# Altium footprint library CDRon_lib.PcbLib: 12 footprints
Each footprint in its own frame and in the unit in brackets; x right, y up, seen from the top. Pads: shape width x height; smd on the part's side, far side on the other; paste and mask are expansions set on the pad; w line width, h text height; cw(c..) or ccw(c..) is an arc to the next point about the centre after c.
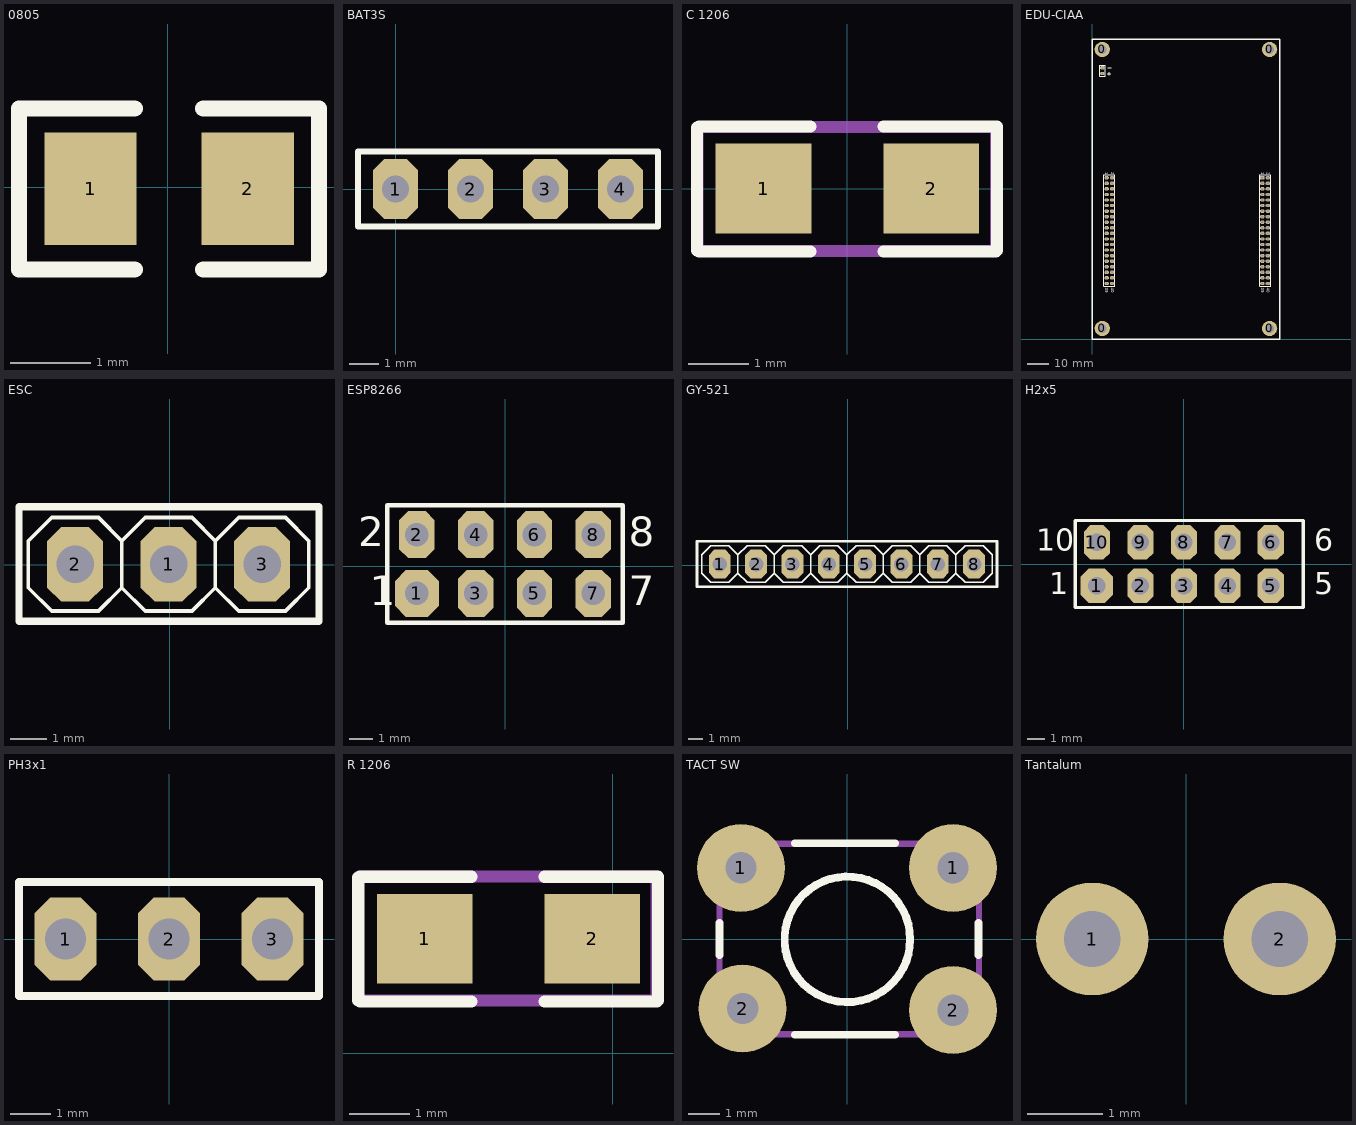
[diagram p0: the footprints below, top view; thin cyan lines are the x and y axes]

## 0805 [mm]
pads (2):
  rect 1.15x1.4 smd: 1(-0.964,-0.019) 2(0.991,-0.019)
Top Overlay:
  lines w0.203: -1.854,-1.022 -1.854,0.982 ; -1.812,-1.022 -0.413,-1.022 ; -1.812,0.982 -0.413,0.982 ; 0.439,-1.022 1.839,-1.022 ; 0.439,0.982 1.839,0.982 ; 1.88,-1.022 1.88,0.982
3D body: height 0.78, standoff 0, extent -1.025,-0.625 0.975,0.625

## BAT3S [mil]
pads (4):
  oct 60x80 hole 35.43: 1(0,0) 2(100,0) 3(200,0) 4(300,0)
Top Overlay:
  lines w7.87: -50,-50 -50,50 350,50 350,-50 -50,-50
3D body: height 275.59, standoff -133.86, extent -94.1,-135 394.1,91.38

## C 1206 [mm]
height 1.016
pads (2):
  rect 1.6x1.5 smd: 1(-1.4,0) 2(1.4,0)
Top Overlay:
  lines w0.203: -2.511,-1.032 -2.511,1.023 ; -2.48,-1.048 -0.621,-1.048 ; -2.48,1.035 -0.621,1.035 ; 0.601,-1.048 2.48,-1.048 ; 0.601,1.035 2.497,1.035 ; 2.497,-1.032 2.497,1.023
Mechanical 29:
  lines w0.2: -2.506,-1.021 -2.506,1.009 -2.486,1.029 2.484,1.029 2.484,-1.041 -2.486,-1.041 -2.506,-1.021
  text ".Designator" at -1.996,-0.471 h1
3D body: height 0.77, standoff -0.01, extent -1.536,-0.801 1.664,0.799

## EDU-CIAA [mil]
pads (86):
  round 275 hole 157.48: 0(185.1,190) 0(185.1,5205.75) 0(3192.97,190) 0(3192.97,5205.75)
  rect 80x60 hole 40: 1(3061.07,2899.1)
  oct 80x60 hole 40: 2(3161.07,2899.1) 3(3061.07,2799.1) 4(3161.07,2799.1) 5(3061.07,2699.1) 6(3161.07,2699.1) 7(3061.07,2599.1) 8(3161.07,2599.1) 9(3061.07,2499.1) 10(3161.07,2499.1) 11(3061.07,2399.1) 12(3161.07,2399.1) 13(3061.07,2299.1) 14(3161.07,2299.1) 15(3061.07,2199.1) 16(3161.07,2199.1) 17(3061.07,2099.1) 18(3161.07,2099.1) 19(3061.07,1999.1) 20(3161.07,1999.1) 21(3061.07,1899.1) 22(3161.07,1899.1) 23(3061.07,1799.1) 24(3161.07,1799.1) 25(3061.07,1699.1) 26(3161.07,1699.1) 27(3061.07,1599.1) 28(3161.07,1599.1) 29(3061.07,1499.1) 30(3161.07,1499.1) 31(3061.07,1399.1) 32(3161.07,1399.1) 33(3061.07,1299.1) 34(3161.07,1299.1) 35(3061.07,1199.1) 36(3161.07,1199.1) 37(3061.07,1099.1) 38(3161.07,1099.1) 39(3061.07,999.1) 40(3161.07,999.1) 41(261.1,2899.1) 42(361.1,2899.1) 43(261.1,2799.1) 44(361.1,2799.1) 45(261.1,2699.1) 46(361.1,2699.1) 47(261.1,2599.1) 48(361.1,2599.1) 49(261.1,2499.1) 50(361.1,2499.1) 51(261.1,2399.1) 52(361.1,2399.1) 53(261.1,2299.1) 54(361.1,2299.1) 55(261.1,2199.1) 56(361.1,2199.1) 57(261.1,2099.1) 58(361.1,2099.1) 59(261.1,1999.1) 60(361.1,1999.1) 61(261.1,1899.1) 62(361.1,1899.1) 63(261.1,1799.1) 64(361.1,1799.1) 65(261.1,1699.1) 66(361.1,1699.1) 67(261.1,1599.1) 68(361.1,1599.1) 69(261.1,1499.1) 70(361.1,1499.1) 71(261.1,1399.1) 72(361.1,1399.1) 73(261.1,1299.1) 74(361.1,1299.1) 75(261.1,1199.1) 76(361.1,1199.1) 77(261.1,1099.1) 78(361.1,1099.1) 79(261.1,999.1) 80(361.1,999.1) 81(185.97,4773.86) 82(185.97,4873.86)
Top Overlay:
  lines w7.87: 135.97,4723.86 135.97,4923.86 235.97,4923.86 235.97,4723.86 135.97,4723.86 ; 211.1,949.1 411.1,949.1 411.1,2949.1 211.1,2949.1 211.1,949.1 ; 3011.07,949.1 3211.07,949.1 3211.07,2949.1 3011.07,2949.1 3011.07,949.1
  lines w10: 273.5,4769.36 339.4,4769.36 ; 279.9,4877.36 345.8,4877.36 ; 305.5,4740.96 305.5,4798.66
  lines w25: 0,0 0,5393.7 3379,5393.7 3379,0 0,0
  text "2" at 3141.07,2999.1 h50
  text "39" at 3041.07,919.1 h50
  text "1" at 3041.07,2999.1 h50
  text "40" at 3141.07,919.1 h50
  text "2" at 341.1,2999.1 h50
  text "39" at 241.1,919.1 h50
  text "1" at 241.1,2999.1 h50
  text "40" at 341.1,919.1 h50
3D body: height 334.65, standoff -125.98, extent 130,4720.08 228.43,4929.92
3D body: height -48.21, standoff -480.49, extent 130.01,4725 230.01,4925
3D body: height -387.01, standoff -450, extent 0,0 3378.94,5394.68
3D body: height 116.3, standoff -320.71, extent 210,950 410,2950
3D body: height 96.3, standoff -340.71, extent 3010,950 3210,2950
3D body: height -53.54, standoff -518.11, extent 119.96,799.72 490.04,3095
3D body: height -53.54, standoff -518.11, extent 2919.96,800 3290.04,3095.27

## ESC [mil]
pads (3):
  oct 60x80 hole 40: 1(-1.1,0.6) 2(-101.1,0.6) 3(98.9,0.6)
Top Overlay:
  lines w3.94: -51.1,-24.4 -51.1,25.6 ; -51.1,-24.4 -26.1,-49.4 ; -51.1,-24.4 -51.1,25.6 ; -51.1,-24.4 -76.1,-49.4 -126.1,-49.4 -151.1,-24.4 -151.1,25.6 -126.1,50.6 -76.1,50.6 -51.1,25.6 ; -51.1,-24.4 -26.1,-49.4 ; -51.1,25.6 -26.1,50.6 ; -51.1,25.6 -26.1,50.6 ; -26.1,-49.4 23.9,-49.4 ; -26.1,-49.4 23.9,-49.4 ; -26.1,50.6 23.9,50.6 ; -26.1,50.6 23.9,50.6 ; 23.9,-49.4 48.9,-24.4 ; 23.9,-49.4 48.9,-24.4 ; 23.9,50.6 48.9,25.6 ; 23.9,50.6 48.9,25.6 ; 48.9,-24.4 48.9,25.6 ; 48.9,-24.4 73.9,-49.4 123.9,-49.4 148.9,-24.4 148.9,25.6 123.9,50.6 73.9,50.6 48.9,25.6 ; 48.9,-24.4 48.9,25.6
  lines w7.87: -161.1,-60.2 159.8,-60.2 159.8,62.1 -161.1,62.1 -161.1,-60.2
Mechanical 1:
  rectangle: -11.1,-9.4 8.9,10.6
  rectangle: 88.9,-9.4 108.9,10.6
  rectangle: -111.1,-9.4 -91.1,10.6
  rectangle: -11.1,-9.4 8.9,10.6
3D body: height 99.02, standoff -118.11, extent -150,-384.41 150,14.41

## ESP8266 [mil]
pads (8):
  oct 75x80 hole 40: 1(-150.2,-46.6)
  oct 60x80 hole 40: 2(-150.2,53.4) 3(-50.2,-46.6) 4(-50.2,53.4) 5(49.8,-46.6) 6(49.8,53.4) 7(149.8,-46.6) 8(149.8,53.4)
Top Overlay:
  lines w7.87: -200.2,-96.6 199.8,-96.6 199.8,103.4 -200.2,103.4 -200.2,-96.6
  text "2" at -250.2,33.4 h50
  text "1" at -230.2,-66.6 h50
  text "7" at 209.8,-66.6 h50
  text "8" at 209.8,33.4 h50
3D body: height 177.17, standoff -124.02, extent -200,-95 200,105
3D body: height 411.4, standoff -48.35, extent -285.87,-103.19 285,873.19

## GY-521 [mil]
pads (8):
  oct 60x80 hole 40: 1(-351.9,2.8) 2(-251.9,2.8) 3(-151.9,2.8) 4(-51.9,2.8) 5(48.1,2.8) 6(148.1,2.8) 7(248.1,2.8) 8(348.1,2.8)
Top Overlay:
  lines w3.94: -301.9,-22.2 -276.9,-47.2 -226.9,-47.2 -201.9,-22.2 ; -301.9,-22.2 -326.9,-47.2 -376.9,-47.2 -401.9,-22.2 -401.9,27.8 -376.9,52.8 -326.9,52.8 -301.9,27.8 ; -301.9,-22.2 -301.9,27.8 ; -301.9,27.8 -276.9,52.8 -226.9,52.8 -201.9,27.8 ; -201.9,-22.2 -201.9,27.8 ; -201.9,-22.2 -176.9,-47.2 -126.9,-47.2 -101.9,-22.2 ; -201.9,-22.2 -201.9,27.8 ; -201.9,27.8 -176.9,52.8 -126.9,52.8 -101.9,27.8 ; -101.9,-22.2 -76.9,-47.2 -26.9,-47.2 -1.9,-22.2 ; -101.9,-22.2 -101.9,27.8 ; -101.9,27.8 -76.9,52.8 -26.9,52.8 -1.9,27.8 ; -1.9,-22.2 -1.9,27.8 ; -1.9,-22.2 23.1,-47.2 73.1,-47.2 98.1,-22.2 ; -1.9,-22.2 -1.9,27.8 ; -1.9,27.8 23.1,52.8 73.1,52.8 98.1,27.8 ; 98.1,-22.2 123.1,-47.2 173.1,-47.2 198.1,-22.2 ; 98.1,-22.2 98.1,27.8 ; 98.1,27.8 123.1,52.8 173.1,52.8 198.1,27.8 ; 198.1,-22.2 198.1,27.8 ; 198.1,-22.2 223.1,-47.2 273.1,-47.2 298.1,-22.2 ; 198.1,-22.2 198.1,27.8 ; 198.1,27.8 223.1,52.8 273.1,52.8 298.1,27.8 ; 298.1,-22.2 323.1,-47.2 373.1,-47.2 398.1,-22.2 398.1,27.8 373.1,52.8 323.1,52.8 298.1,27.8 ; 298.1,-22.2 298.1,27.8
  lines w7.87: -414.7,-59.7 411,-59.7 411,65.5 -414.7,65.5 -414.7,-59.7
Mechanical 1:
  rectangle: -261.9,-7.2 -241.9,12.8
  rectangle: -361.9,-7.2 -341.9,12.8
  rectangle: -61.9,-7.2 -41.9,12.8
  rectangle: -161.9,-7.2 -141.9,12.8
  rectangle: 138.1,-7.2 158.1,12.8
  rectangle: 38.1,-7.2 58.1,12.8
  rectangle: 338.1,-7.2 358.1,12.8
  rectangle: 238.1,-7.2 258.1,12.8
3D body: height 549.65, standoff 84.3, extent -400,-45 400,555.2
3D body: height 326.77, standoff 0, extent -405,-50 395,50

## H2x5 [mil]
pads (10):
  oct 75x80 hole 40: 1(-200,-50)
  oct 60x80 hole 40: 2(-100,-50) 3(0,-50) 4(100,-50) 5(200,-50) 6(200,50) 7(100,50) 8(0,50) 9(-100,50) 10(-200,50)
Top Overlay:
  lines w7.87: -250,-100 -250,100 275,100 275,-100 -250,-100
  text "6" at 300,30 h50
  text "5" at 300,-70 h50
  text "1" at -310,-70 h50
  text "10" at -340,30 h50
3D body: height 354.33, standoff -118.11, extent -399.99,-179.13 400.01,179.14

## PH3x1 [mil]
pads (3):
  oct 60x80 hole 40: 1(-100,0) 2(0,0) 3(100,0)
Top Overlay:
  lines w7.87: -145,-55 -145,55 145,55 145,-55 -145,-55
3D body: height 335.85, standoff -144.88, extent -150,-59.96 150,55
3D body: height 336.22, standoff -118.11, extent 260.01,70.99 560.01,169.02
3D body: height 336.22, standoff -118.11, extent 280,250.99 580,349.02
3D body: height 336.22, standoff -118.11, extent 235,10.99 535,109.02
3D body: height 336.22, standoff -118.11, extent -225,10.99 75,109.02
3D body: height 336.22, standoff -118.11, extent -329.99,-59.01 -29.99,39.02
3D body: height 57.48, standoff -57.48, extent 25.01,-24.88 325.01,455.86

## R 1206 [mm]
height 1.016
pads (2):
  rect 1.6x1.5 smd: 1(-3.144,1.911) 2(-0.344,1.911)
Top Overlay:
  lines w0.203: -4.255,0.879 -4.255,2.934 ; -4.224,0.864 -2.365,0.864 ; -4.224,2.946 -2.365,2.946 ; -1.143,0.864 0.737,0.864 ; -1.143,2.946 0.753,2.946 ; 0.753,0.879 0.753,2.934
Mechanical 29:
  lines w0.2: -4.26,0.9 -4.24,0.88 0.73,0.88 0.73,2.95 -4.24,2.95 -4.26,2.93 -4.26,0.9
  text ".Designator" at -3.87,1.47 h1
3D body: height 1, standoff 0, extent -3.34,1.11 -0.14,2.71

## TACT SW [mm]
pads (4):
  round 2.8 hole 1: 1(-3.375,2.262) 1(3.375,2.262) 2(-3.325,-2.212) 2(3.375,-2.262)
Top Overlay:
  circle w0.254: c0.013,-0.011 r1.998
  lines w0.254: -4.064,-0.508 -4.064,0.508 ; -1.651,-3.048 1.524,-3.048 ; -1.651,3.048 1.524,3.048 ; 4.191,-0.508 4.191,0.508
Mechanical 29:
  lines w0.2: -4.06,-3.03 4.2,-3.03 4.2,3.03 -4.06,3.03 -4.06,-3.03
  text ".Designator" at -2,-0.41 h1
3D body: height 5.25, standoff -3.25, extent -4.134,-3.175 4.134,3.325

## Tantalum [mm]
pads (2):
  round 1.5 hole 0.75: 1(-1.25,0) 2(1.25,0)
3D body: height 7.39, standoff -1.65, extent -1.985,-1.984 1.985,1.984